# EAGLE library part STLM75DS2F (library Sensor)
SENSOR DIGITAL -55C-125C 8MSOP
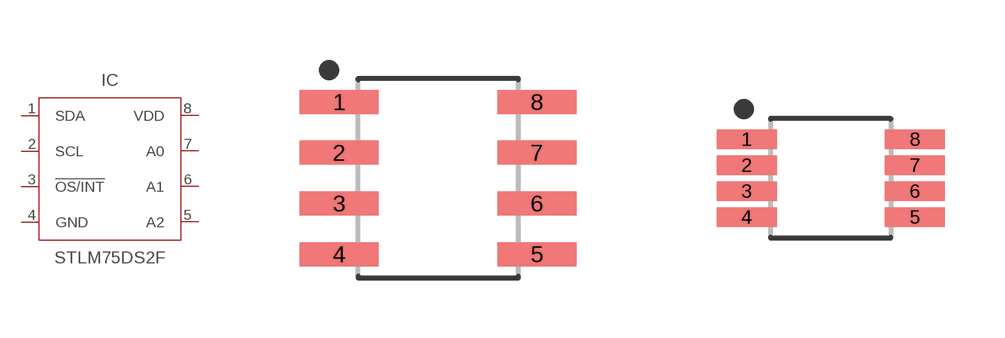
[diagram p11: symbol with the pads of SOIC127P600X175-8N; footprints SOIC127P600X175-8N, SOP65P490X110-8N]

Designator prefix IC

## STLM75DS2F_SO8 (CATEGORY: Sensor; MANUFACTURER: ST Microelectronics; MPN: STLM75DS2F; OPERATING_TEMP: -55 to 125 °C; PART_STATUS: Active; ROHS_COMPLIANT: RoHS3 Compliant; SUB-CATEGORY: Temperature; THERMALLOSS: 0.32W; VALUE: STLM75DS2F)  [SOIC127P600X175-8N]
1  SDA
2  SCL  in
3  !OS/INT  out
4  GND  pas
5  A2  in
6  A1  in
7  A0  in
8  VDD  pwr

## STLM75DS2F_TSSOP8 (CATEGORY: Sensor; DESCRIPTION: SENSOR DIGITAL -55C-125C 8MSOP; MANUFACTURER: STMicroelectronics; MPN: STLM75DS2F; VALUE: STLM75)  [SOP65P490X110-8N]
Pads as for SOIC127P600X175-8N

## Footprint SOIC127P600X175-8N (pad centres in mm)
8-SOIC, 1.27 mm pitch, 6.00 mm span, 4.90 X 3.90 X 1.75 mm body 8-pin SOIC package with 1.27 mm pitch, 6.00 mm span with body size 4.90 X 3.90 X 1.75 mm
smd 1.968 x 0.599: 1 -2.473,1.905; 2 -2.473,0.635; 3 -2.473,-0.635; 4 -2.473,-1.905; 5 2.473,-1.905; 6 2.473,-0.635; 7 2.473,0.635; 8 2.473,1.905

## Footprint SOP65P490X110-8N (pad centres in mm)
8-SOP, 0.65 mm pitch, 4.90 mm span, 3.00 X 3.00 X 1.10 mm body 8-pin SOP package with 0.65 mm pitch, 4.90 mm span with body size 3.00 X 3.00 X 1.10 mm
smd 1.503 x 0.492: 1 -2.104,0.975; 2 -2.104,0.325; 3 -2.104,-0.325; 4 -2.104,-0.975; 5 2.104,-0.975; 6 2.104,-0.325; 7 2.104,0.325; 8 2.104,0.975